# EAGLE library part ALA2F (library my_rcl)
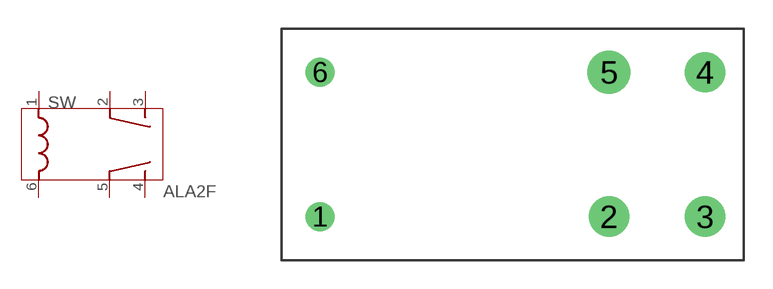
[diagram p0: symbol with the pads of ALA2F; footprint ALA2F]

Designator prefix SW

## ALA2F  [ALA2F]
1  L1  pas
2  COM1  pas
3  A1  pas
4  A2  pas
5  COM2  pas
6  L2  pas

## Footprint ALA2F (pad centres in mm)
drill 1: 1 -10,-3.75; 6 -10,3.75
drill 1.4: 2 5,-3.75; 3 10,-3.75; 4 10,3.75
drill 1.5: 5 5,3.75